# Altium schematic symbol library Analog Devices.SchLib: 13 symbols
Pins are listed as number, name and electrical type; pins without a type are passive.

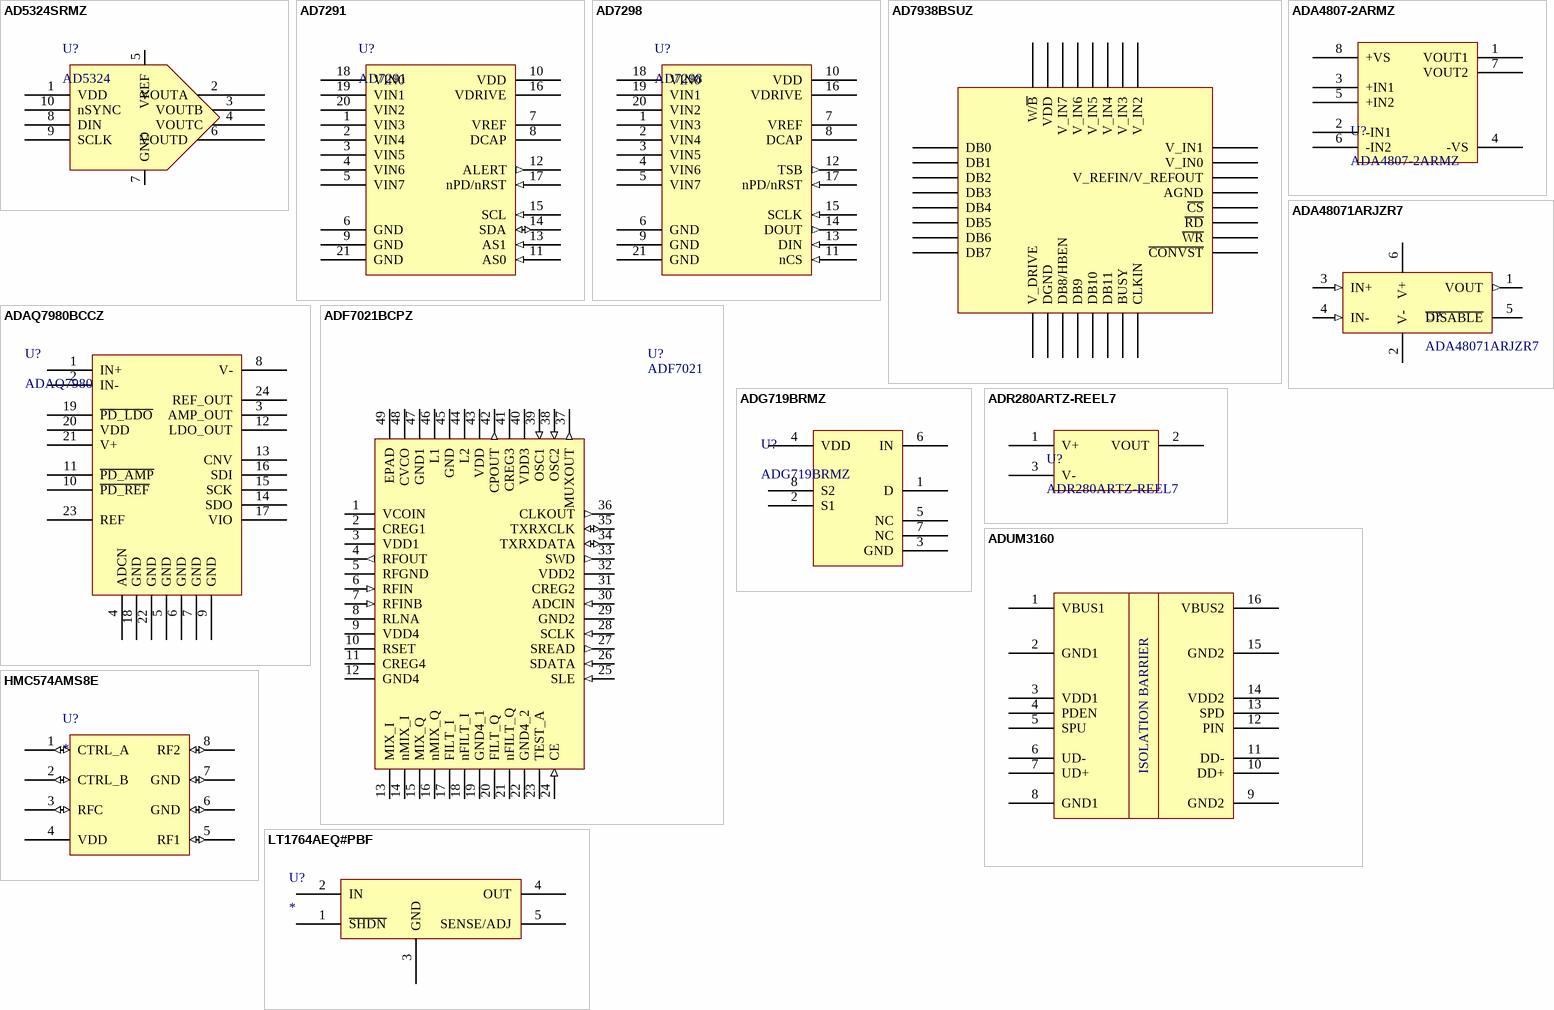
[diagram p0: symbols AD5324SRMZ to LT1764AEQ#PBF]

## AD5324SRMZ
designator U?, comment AD5324
pins: 1 VDD, 2 VOUTA, 3 VOUTB, 4 VOUTC, 5 VREF, 6 VOUTD, 7 GND, 8 DIN, 9 SCLK, 10 nSYNC

## AD7291
designator U?
pins: 1 VIN3, 2 VIN4, 3 VIN5, 4 VIN6, 5 VIN7, 6 GND, 7 VREF, 8 DCAP, 9 GND, 10 VDD, 11 AS0 (in), 12 ALERT (out), 13 AS1 (in), 14 SDA (io), 15 SCL (in), 16 VDRIVE, 17 nPD/nRST (in), 18 VIN0, 19 VIN1, 20 VIN2, 21 GND

## AD7298
designator U?
pins: 1 VIN3, 2 VIN4, 3 VIN5, 4 VIN6, 5 VIN7, 6 GND, 7 VREF, 8 DCAP, 9 GND, 10 VDD, 11 nCS (in), 12 TSB (out), 13 DIN (in), 14 DOUT (out), 15 SCLK (in), 16 VDRIVE, 17 nPD/nRST (in), 18 VIN0, 19 VIN1, 20 VIN2, 21 GND

## AD7938BSUZ
designator U?  (value not drawn)
pins: 1 DB0, 2 DB1, 3 DB2, 4 DB3, 5 DB4, 6 DB5, 7 DB6, 8 DB7, 9 V_DRIVE, 10 DGND, 11 DB8/HBEN, 12 DB9, 13 DB10, 14 DB11, 15 BUSY, 16 CLKIN, 17 ~{CONVST}, 18 ~{WR}, 19 ~{RD}, 20 ~{CS}, 21 AGND, 22 V_REFIN/V_REFOUT, 23 V_IN0, 24 V_IN1, 25 V_IN2, 26 V_IN3, 27 V_IN4, 28 V_IN5, 29 V_IN6, 30 V_IN7, 31 VDD, 32 W/~{B}

## ADA4807-2ARMZ
designator U?
pins: 1 VOUT1, 2 -IN1, 3 +IN1, 4 -VS, 5 +IN2, 6 -IN2, 7 VOUT2, 8 +VS

## ADA48071ARJZR7
designator U?
pins: 1 VOUT (out), 2 V- (power), 3 IN+ (in), 4 IN- (in), 5 ~{DISABLE}, 6 V+ (power)

## ADAQ7980BCCZ
designator U?, comment ADAQ7980
pins: 1 IN+, 2 IN-, 3 AMP_OUT, 4 ADCN, 5 GND, 6 GND, 7 GND, 8 V-, 9 GND, 10 ~{PD_REF}, 11 ~{PD_AMP}, 12 LDO_OUT, 13 CNV, 14 SDO, 15 SCK, 16 SDI, 17 VIO, 18 GND, 19 ~{PD_LDO}, 20 VDD, 21 V+, 22 GND, 23 REF, 24 REF_OUT

## ADF7021BCPZ
designator U?, comment ADF7021
Manufacturer_Name: Analog Devices; Manufacturer_Part_Number: ADF7021BCPZ; Geometry.Height: 0.8mm; Supplier_Name: RS; RS Part Number: 6977565; Allied_Number: *; Other Part Number: *; Datasheet Link: http://www.analog.com/static/imported-files/data_sheets/ADF7021.pdf; 3D Package: *
footprint QFN50P700X700X80-49N
pins: 1 VCOIN, 2 CREG1, 3 VDD1 (power), 4 RFOUT (out), 5 RFGND (power), 6 RFIN (in), 7 RFINB (in), 8 RLNA, 9 VDD4 (power), 10 RSET, 11 CREG4, 12 GND4 (power), 13 MIX_I (hiz), 14 nMIX_I (hiz), 15 MIX_Q (hiz), 16 nMIX_Q (hiz), 17 FILT_I (hiz), 18 nFILT_I (hiz), 19 GND4_1 (power), 20 FILT_Q (hiz), 21 nFILT_Q (hiz), 22 GND4_2 (power), 23 TEST_A (hiz), 24 CE (in), 25 SLE (in), 26 SDATA (in), 27 SREAD (out), 28 SCLK (in), 29 GND2 (power), 30 ADCIN (in), 31 CREG2, 32 VDD2 (power), 33 SWD (out), 34 TXRXDATA (io), 35 TXRXCLK (io), 36 CLKOUT (out), 37 MUXOUT (out), 38 OSC2 (in), 39 OSC1 (in), 40 VDD3 (power), 41 CREG3, 42 CPOUT (out), 43 VDD (power), 44 L2, 45 GND (power), 46 L1, 47 GND1 (power), 48 CVCO, 49 EPAD

## ADG719BRMZ
designator U?
pins: 1 D, 2 S1, 3 GND, 4 VDD, 5 NC, 6 IN, 7 NC, 8 S2

## ADR280ARTZ-REEL7
designator U?
pins: 1 V+, 2 VOUT, 3 V-

## ADUM3160
designator U?
pins: 1 VBUS1, 2 GND1, 3 VDD1, 4 PDEN, 5 SPU, 6 UD-, 7 UD+, 8 GND1, 9 GND2, 10 DD+, 11 DD-, 12 PIN, 13 SPD, 14 VDD2, 15 GND2, 16 VBUS2
text: ISOLATION BARRIER

## HMC574AMS8E
designator U?
footprint TSOP65P490X110-8N (TSOP, 8-Leads, Body 3.00x3.00mm, Pitch 0.65mm, IPC Medium Density)
pins: 1 CTRL_A (io), 2 CTRL_B (io), 3 RFC (io), 4 VDD (power), 5 RF1 (io), 6 GND (io), 7 GND (io), 8 RF2 (io)

## LT1764AEQ#PBF
designator U?
pins: 1 ~{SHDN} (power), 2 IN, 3 GND, 4 OUT, 5 SENSE/ADJ